# Altium integrated library Pedro_Integrated_Library.IntLib: 28 symbols
Pins are listed as number, name and electrical type; pins without a type are passive.

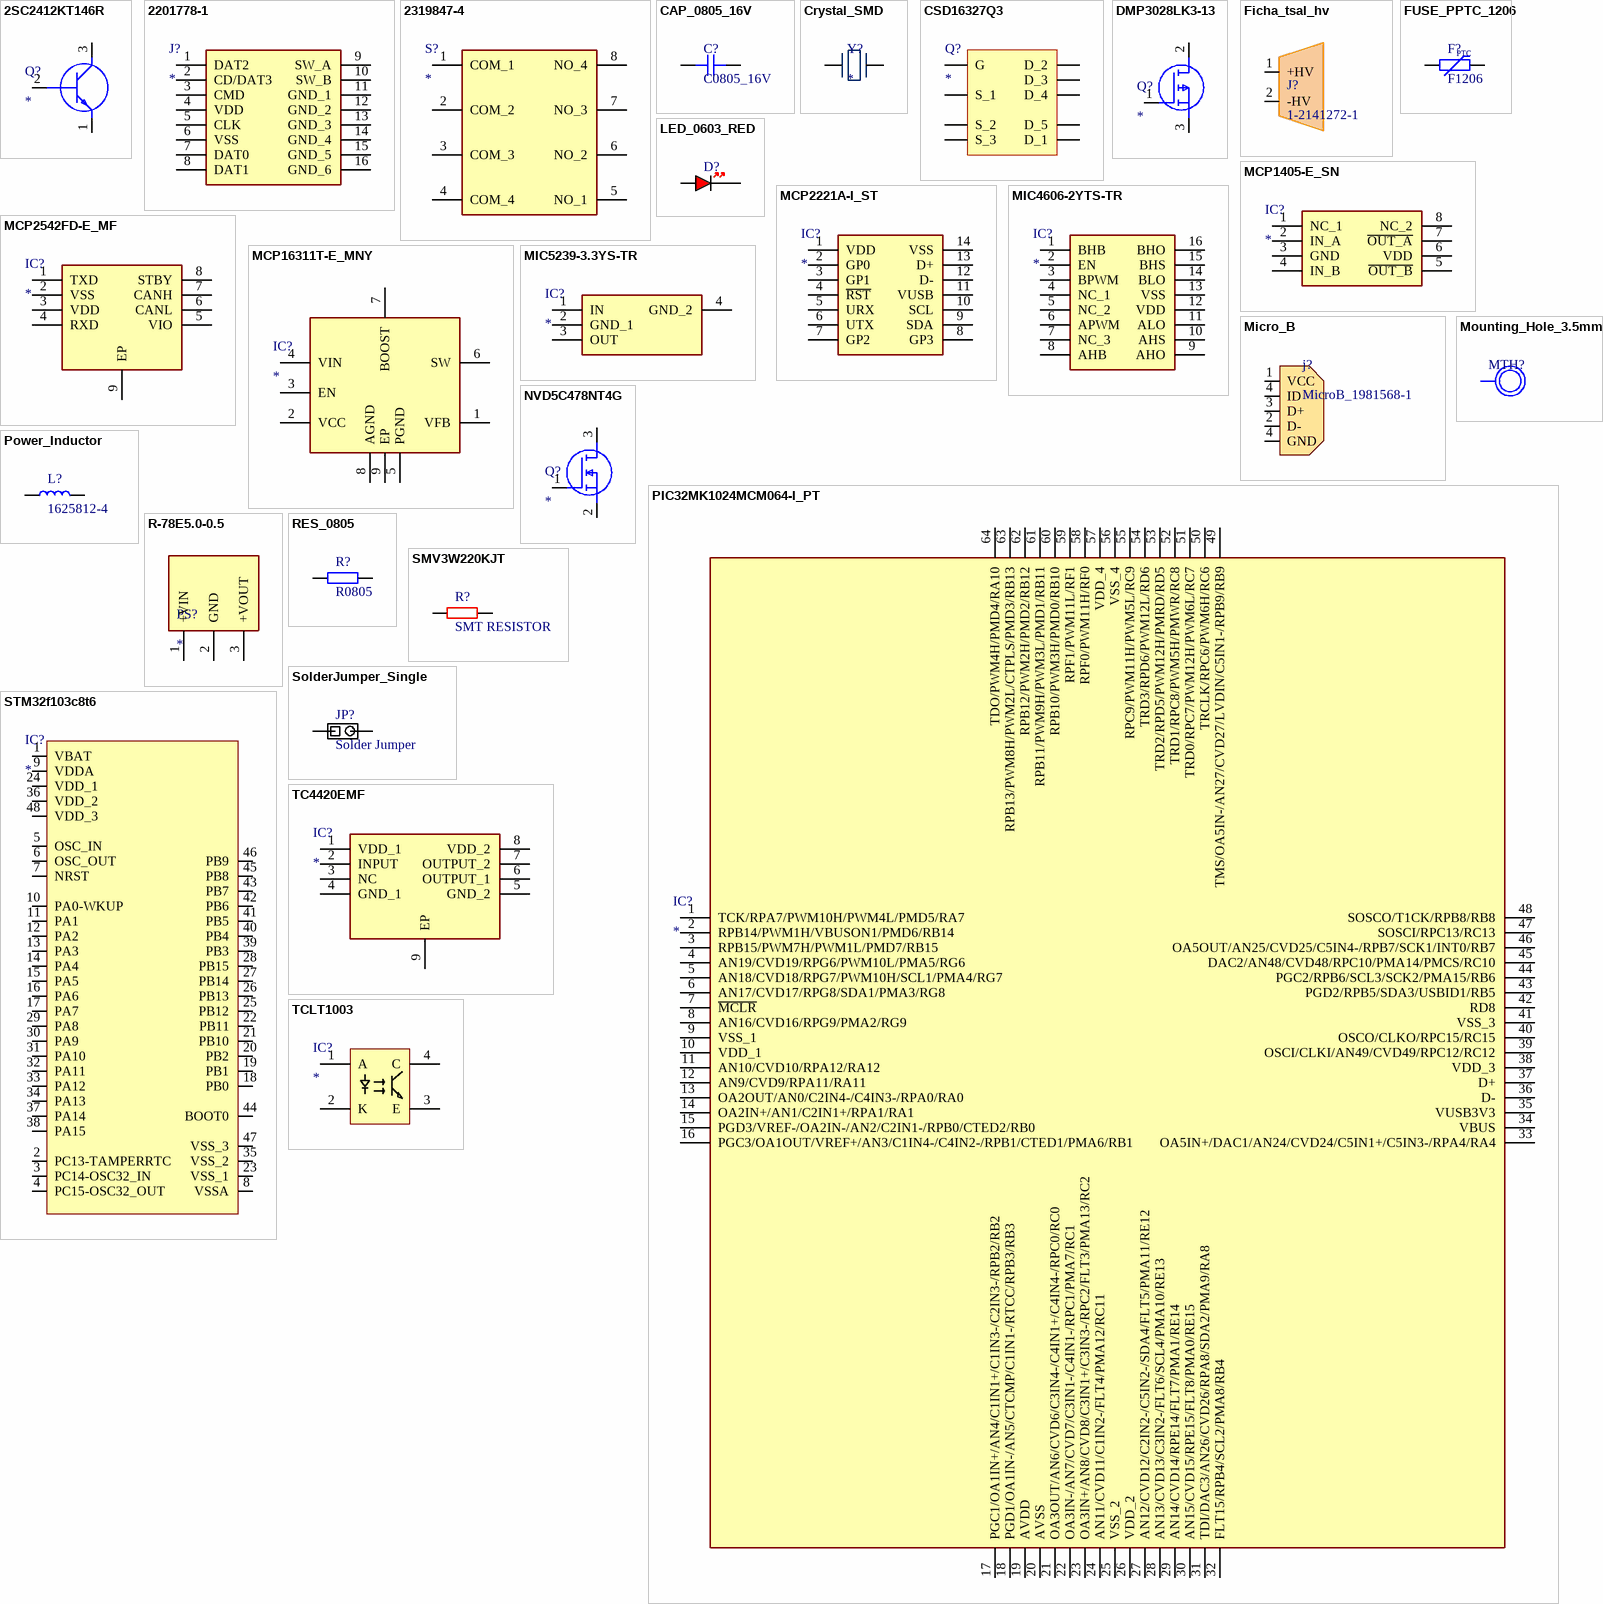
[diagram p0: symbols 2SC2412KT146R to TCLT1003]

## 2SC2412KT146R
designator Q?
Transistor BJT NPN; Manufacturer_Name: ROHM Semiconductor; Manufacturer_Part_Number: 2SC2412KT146R; Datasheet Link: https://componentsearchengine.com/Datasheets/2/2SC2412KT146R.pdf; Height: 1mm; Mouser Part Number: 755-2SC2412KT146R; Mouser Price/Stock: https://www.mouser.co.uk/ProductDetail/ROHM-Semiconductor/2SC2412KT146R?qs=4kLU8WoGk0tpvx7TJSz0kg%3D%3D
footprint 2SC3906KT146ERS
pins: 1 E, 2 B, 3 C

## 2201778-1
designator J?
Connector; Manufacturer_Name: TE Connectivity; Manufacturer_Part_Number: 2201778-1; Datasheet Link: https://www.te.com/commerce/DocumentDelivery/DDEController?Action=showdoc&DocId=Customer+Drawing%7F2201778%7FB%7Fpdf%7FJapanese%7FJPN_CD_2201778_B.pdf%7F2201778-1; Height: 1.95mm; Mouser Part Number: 571-2201778-1; Mouser Price/Stock: https://www.mouser.co.uk/ProductDetail/TE-Connectivity/2201778-1?qs=%2F6W%2F9%2FHWvcBMWWw9w8oBng%3D%3D; Arrow Part Number: 2201778-1; Arrow Price/Stock: https://www.arrow.com/en/products/2201778-1/te-connectivity?region=nac
footprint 22017781
pins: 1 DAT2, 2 CD/DAT3, 3 CMD, 4 VDD, 5 CLK, 6 VSS, 7 DAT0, 8 DAT1, 9 SW_A, 10 SW_B, 11 GND_1, 12 GND_2, 13 GND_3, 14 GND_4, 15 GND_5, 16 GND_6

## 2319847-4
designator S?
Switch; Manufacturer_Name: TE Connectivity; Manufacturer_Part_Number: 2319847-4; Datasheet Link: https://www.te.com/commerce/DocumentDelivery/DDEController?Action=srchrtrv&DocNm=2319847&DocType=Customer+Drawing&DocLang=English&PartCntxt=2-2319847-4&DocFormat=pdf; Height: 3.7mm
footprint 23198474
pins: 1 COM_1, 2 COM_2, 3 COM_3, 4 COM_4, 5 NO_1, 6 NO_2, 7 NO_3, 8 NO_4

## CAP_0805_16V
designator C?, comment C0805_16V
Capacitor SMD 0805 16V
footprint CAP_0805
pins: 1, 2

## Crystal_SMD
designator Y?
footprint ABM38000MHZC4T
pins: 1, 2

## CSD16327Q3
designator Q?
MOSFET (N-Channel); Manufacturer_Name: Texas Instruments; Manufacturer_Part_Number: CSD16327Q3; Datasheet Link: https://www.ti.com/lit/ds/symlink/csd16327q3.pdf?HQS=dis-mous-null-mousermode-dsf-pf-null-wwe&ts=1620965148072&ref_url=https%253A%252F%252Fwww.mouser.com%252F; Height: 1.1mm; Mouser Part Number: 595-CSD16327Q3; Mouser Price/Stock: https://www.mouser.co.uk/ProductDetail/Texas-Instruments/CSD16327Q3?qs=3jfYfyvUSwCG33cNK3hedw%3D%3D; Arrow Part Number: CSD16327Q3; Arrow Price/Stock: https://www.arrow.com/en/products/csd16327q3/texas-instruments?region=nac
footprint CSD16327Q3
pins: 1 S_1, 2 S_2, 3 S_3, 4 G, 5 D_1 (power), 6 D_2 (power), 7 D_3 (power), 8 D_4 (power), 9 D_5 (power)

## DMP3028LK3-13
designator Q?
MOSFET (P-Channel); Manufacturer_Name: Diodes Inc.; Manufacturer_Part_Number: DMP3028LK3-13; Datasheet Link: https://componentsearchengine.com/Datasheets/1/DMP3028LK3-13.pdf; Height: 2.39mm; Mouser Part Number: 621-DMP3028LK3-13; Mouser Price/Stock: https://www.mouser.co.uk/ProductDetail/Diodes-Incorporated/DMP3028LK3-13?qs=OVC8WVYZliSFpRP3sPErZQ%3D%3D; Arrow Part Number: DMP3028LK3-13; Arrow Price/Stock: https://www.arrow.com/en/products/dmp3028lk3-13/diodes-incorporated
footprint DMP3028LK313
pins: 1 G, 2 D, 3 S

## Ficha_tsal_hv
designator J?, comment 1-2141272-1
TE 1-2141272-1
footprint Ficha_tsal_hv
pins: 1 +HV, 2 -HV

## FUSE_PPTC_1206
designator F?, comment F1206
Fuse PPTC SMD 1206; Manufacturer: *; Manufacturer Part Number: *
footprint FUSE_1206
pins: 1, 2
text: PTC

## LED_0603_RED
designator D?, comment RED  (value not drawn)
LED 0603 RED SMD
footprint LED_0603_RED
pins: A, K

## MCP1405-E_SN
designator IC?
Integrated Circuit; Manufacturer_Name: Microchip; Manufacturer_Part_Number: MCP1405-E/SN; Datasheet Link: https://datasheet.datasheetarchive.com/originals/distributors/SFDatasheet-4/sf-00090019.pdf; Height: 1.75mm; Mouser Part Number: 579-MCP1405-E/SN; Mouser Price/Stock: https://www.mouser.co.uk/ProductDetail/Microchip-Technology/MCP1405-E-SN?qs=usxtMOJb1Rz6iJkGGONxgg%3D%3D; Arrow Part Number: MCP1405-E/SN; Arrow Price/Stock: https://www.arrow.com/en/products/mcp1405-esn/microchip-technology
footprint SOIC127P600X175-8N
pins: 1 NC_1, 2 IN_A, 3 GND, 4 IN_B, 5 ~{OUT_B}, 6 VDD, 7 ~{OUT_A}, 8 NC_2

## MCP2221A-I_ST
designator IC?
Integrated Circuit; Manufacturer_Name: Microchip; Manufacturer_Part_Number: MCP2221A-I/ST; Datasheet Link: http://ww1.microchip.com/downloads/en/devicedoc/20005565b.pdf; Height: 1.2mm; Mouser Part Number: 579-MCP2221A-I/ST; Mouser Price/Stock: https://www.mouser.co.uk/ProductDetail/Microchip-Technology-Atmel/MCP2221A-I-ST?qs=ZEMkBHnybREMkqMgzOrcGQ%3D%3D; Arrow Part Number: MCP2221A-I/ST; Arrow Price/Stock: https://www.arrow.com/en/products/mcp2221a-ist/microchip-technology?region=nac
footprint SOP65P640X120-14N
pins: 1 VDD, 2 GP0, 3 GP1, 4 ~{RST}, 5 URX, 6 UTX, 7 GP2, 8 GP3, 9 SDA, 10 SCL, 11 VUSB, 12 D-, 13 D+, 14 VSS

## MCP2542FD-E_MF
designator IC?
Integrated Circuit; Manufacturer_Name: Microchip; Manufacturer_Part_Number: MCP2542FD-E/MF; Datasheet Link: http://ww1.microchip.com/downloads/en/devicedoc/20005514a.pdf; Height: 1mm; Mouser Part Number: 579-MCP2542FD-E/MF; Mouser Price/Stock: https://www.mouser.co.uk/ProductDetail/Microchip-Technology-Atmel/MCP2542FD-E-MF?qs=l7cgNqFNU1jog4BwTzULBw%3D%3D; Arrow Part Number: MCP2542FD-E/MF; Arrow Price/Stock: https://www.arrow.com/en/products/mcp2542fd-emf/microchip-technology?region=nac
footprint SON65P300X300X100-9N-D
pins: 1 TXD, 2 VSS, 3 VDD, 4 RXD, 5 VIO, 6 CANL, 7 CANH, 8 STBY, 9 EP

## MCP16311T-E_MNY
designator IC?
Integrated Circuit; Manufacturer_Name: Microchip; Manufacturer_Part_Number: MCP16311T-E/MNY; Datasheet Link: https://datasheet.datasheetarchive.com/originals/distributors/Datasheets-DGA22/1282819.pdf; Height: 0.8mm; Mouser Part Number: 579-MCP16311T-E/MNY; Mouser Price/Stock: https://www.mouser.co.uk/ProductDetail/Microchip-Technology/MCP16311T-E-MNY?qs=6qKXPk0vzx1V1ZrUQA0ENw%3D%3D; Arrow Part Number: MCP16311T-E/MNY; Arrow Price/Stock: https://www.arrow.com/en/products/mcp16311t-emny/microchip-technology?region=nac
footprint SON50P300X200X80-9N-D
pins: 1 VFB, 2 VCC, 3 EN, 4 VIN, 5 PGND, 6 SW, 7 BOOST, 8 AGND, 9 EP

## MIC4606-2YTS-TR
designator IC?
Integrated Circuit; Manufacturer_Name: Microchip; Manufacturer_Part_Number: MIC4606-2YTS-TR; Datasheet Link: https://eu.mouser.com/datasheet/2/268/20005604B-1286645.pdf; Height: 1.2mm; Mouser Part Number: 579-MIC4606-2YTS-TR; Mouser Price/Stock: https://www.mouser.co.uk/ProductDetail/Microchip-Technology-Atmel/MIC4606-2YTS-TR?qs=fxR7EJxuiMGiGNq6G0IdXQ%3D%3D; Arrow Part Number: MIC4606-2YTS-TR; Arrow Price/Stock: https://www.arrow.com/en/products/mic4606-2yts-tr/microchip-technology?region=nac
footprint SOP65P640X120-16N
pins: 1 BHB, 2 EN, 3 BPWM, 4 NC_1, 5 NC_2, 6 APWM, 7 NC_3, 8 AHB, 9 AHO, 10 AHS, 11 ALO, 12 VDD, 13 VSS, 14 BLO, 15 BHS, 16 BHO

## MIC5239-3.3YS-TR
designator IC?
Integrated Circuit; Manufacturer_Name: Microchip; Manufacturer_Part_Number: MIC5239-3.3YS-TR; Datasheet Link: https://ww1.microchip.com/downloads/en/DeviceDoc/mic5239.pdf; Height: 1.8mm; Mouser Part Number: 998-MIC5239-3.3YSTR; Mouser Price/Stock: https://www.mouser.co.uk/ProductDetail/Microchip-Technology-Micrel/MIC5239-33YS-TR?qs=U6T8BxXiZAXN0UitWWB92A%3D%3D; Arrow Part Number: MIC5239-3.3YS-TR; Arrow Price/Stock: https://www.arrow.com/en/products/mic5239-3.3ys-tr/microchip-technology?region=nac
footprint SOT230P700X180-4N
pins: 1 IN, 2 GND_1, 3 OUT, 4 GND_2

## Micro_B
designator j?, comment MicroB_1981568-1
footprint 1981568-1
pins: 1 VCC (power), 2 D- (io), 3 D+ (io), 4 GND (power), 4 ID

## Mounting_Hole_3.5mm
designator MTH?  (value not drawn)
footprint Mounting_Hole_3.5mm
pins: 1

## NVD5C478NT4G
designator Q?
MOSFET (N-Channel); Manufacturer_Name: onsemi; Manufacturer_Part_Number: NVD5C478NT4G; Datasheet Link: http://www.onsemi.com/pub/Collateral/NVD5C478N-D.PDF; Mouser Part Number: 863-NVD5C478NT4G; Mouser Price/Stock: https://www.mouser.co.uk/ProductDetail/ON-Semiconductor/NVD5C478NT4G/?qs=y6ZabgHbY%252Bxvq0EyOcHTlg%3D%3D; Arrow Part Number: NVD5C478NT4G; Arrow Price/Stock: https://www.arrow.com/en/products/nvd5c478nt4g/on-semiconductor?region=nac
footprint DPAK_(SINGLE-GAUGE)_TO-252(369C)_ISSUE_F
pins: 1 G, 2 S, 3 D

## PIC32MK1024MCM064-I_PT
designator IC?
Integrated Circuit; Manufacturer_Name: Microchip; Manufacturer_Part_Number: PIC32MK1024MCM064-I/PT; Datasheet Link: https://ww1.microchip.com/downloads/aemDocuments/documents/MCU32/ProductDocuments/DataSheets/PIC32MK-GPK-MCM-with-CAN-FD-Family-DataSheet-DS60001519E.pdf; Height: 1.2mm; Mouser Part Number: 579-2MK1024MCM064IPT; Mouser Price/Stock: https://www.mouser.co.uk/ProductDetail/Microchip-Technology/PIC32MK1024MCM064-I-PT?qs=W%2FMpXkg%252BdQ4dBI32NJdQMg%3D%3D; Arrow Part Number: PIC32MK1024MCM064-I/PT; Arrow Price/Stock: https://www.arrow.com/en/products/pic32mk1024mcm064-ipt/microchip-technology?region=nac
footprint QFP50P1200X1200X120-64N
pins: 1 TCK/RPA7/PWM10H/PWM4L/PMD5/RA7, 2 RPB14/PWM1H/VBUSON1/PMD6/RB14, 3 RPB15/PWM7H/PWM1L/PMD7/RB15, 4 AN19/CVD19/RPG6/PWM10L/PMA5/RG6, 5 AN18/CVD18/RPG7/PWM10H/SCL1/PMA4/RG7, 6 AN17/CVD17/RPG8/SDA1/PMA3/RG8, 7 ~{MCLR}, 8 AN16/CVD16/RPG9/PMA2/RG9, 9 VSS_1, 10 VDD_1, 11 AN10/CVD10/RPA12/RA12, 12 AN9/CVD9/RPA11/RA11, 13 OA2OUT/AN0/C2IN4-/C4IN3-/RPA0/RA0, 14 OA2IN+/AN1/C2IN1+/RPA1/RA1, 15 PGD3/VREF-/OA2IN-/AN2/C2IN1-/RPB0/CTED2/RB0, 16 PGC3/OA1OUT/VREF+/AN3/C1IN4-/C4IN2-/RPB1/CTED1/PMA6/RB1, 17 PGC1/OA1IN+/AN4/C1IN1+/C1IN3-/C2IN3-/RPB2/RB2, 18 PGD1/OA1IN-/AN5/CTCMP/C1IN1-/RTCC/RPB3/RB3, 19 AVDD, 20 AVSS, 21 OA3OUT/AN6/CVD6/C3IN4-/C4IN1+/C4IN4-/RPC0/RC0, 22 OA3IN-/AN7/CVD7/C3IN1-/C4IN1-/RPC1/PMA7/RC1, 23 OA3IN+/AN8/CVD8/C3IN1+/C3IN3-/RPC2/FLT3/PMA13/RC2, 24 AN11/CVD11/C1IN2-/FLT4/PMA12/RC11, 25 VSS_2, 26 VDD_2, 27 AN12/CVD12/C2IN2-/C5IN2-/SDA4/FLT5/PMA11/RE12, 28 AN13/CVD13/C3IN2-/FLT6/SCL4/PMA10/RE13, 29 AN14/CVD14/RPE14/FLT7/PMA1/RE14, 30 AN15/CVD15/RPE15/FLT8/PMA0/RE15, 31 TDI/DAC3/AN26/CVD26/RPA8/SDA2/PMA9/RA8, 32 FLT15/RPB4/SCL2/PMA8/RB4, 33 OA5IN+/DAC1/AN24/CVD24/C5IN1+/C5IN3-/RPA4/RA4, 34 VBUS, 35 VUSB3V3, 36 D-, 37 D+, 38 VDD_3, 39 OSCI/CLKI/AN49/CVD49/RPC12/RC12, 40 OSCO/CLKO/RPC15/RC15, 41 VSS_3, 42 RD8, 43 PGD2/RPB5/SDA3/USBID1/RB5, 44 PGC2/RPB6/SCL3/SCK2/PMA15/RB6, 45 DAC2/AN48/CVD48/RPC10/PMA14/PMCS/RC10, 46 OA5OUT/AN25/CVD25/C5IN4-/RPB7/SCK1/INT0/RB7, 47 SOSCI/RPC13/RC13, 48 SOSCO/T1CK/RPB8/RB8, 49 TMS/OA5IN-/AN27/CVD27/LVDIN/C5IN1-/RPB9/RB9, 50 TRCLK/RPC6/PWM6H/RC6, 51 TRD0/RPC7/PWM12H/PWM6L/RC7, 52 TRD1/RPC8/PWM5H/PMWR/RC8, 53 TRD2/RPD5/PWM12H/PMRD/RD5, 54 TRD3/RPD6/PWM12L/RD6, 55 RPC9/PWM11H/PWM5L/RC9, 56 VSS_4, 57 VDD_4, 58 RPF0/PWM11H/RF0, 59 RPF1/PWM11L/RF1, 60 RPB10/PWM3H/PMD0/RB10, 61 RPB11/PWM9H/PWM3L/PMD1/RB11, 62 RPB12/PWM2H/PMD2/RB12, 63 RPB13/PWM8H/PWM2L/CTPLS/PMD3/RB13, 64 TDO/PWM4H/PMD4/RA10

## Power_Inductor
designator L?, comment 1625812-4
TE 1625812-4
footprint Power_Inductor
pins: 1, 2

## R-78E5.0-0.5
designator PS?
Power Supply; Manufacturer_Name: RECOM Power; Manufacturer_Part_Number: R-78E5.0-0.5; Datasheet Link: https://datasheet.datasheetarchive.com/originals/distributors/Datasheets_SAMA/1560217c2d38d5ce10907af13420fc49.pdf; Height: 10.9mm; Mouser Part Number: 919-R-78E5.0-0.5; Mouser Price/Stock: https://www.mouser.co.uk/ProductDetail/RECOM-Power/R-78E5.0-0.5?qs=JeAkOuORR2UvBuiB2kZVZQ%3D%3D; Arrow Part Number: R-78E5.0-0.5; Arrow Price/Stock: https://www.arrow.com/en/products/r-78e5.0-0.5/recom-power?region=europe
footprint R78E5005
pins: 1 +VIN, 2 GND, 3 +VOUT

## RES_0805
designator R?, comment R0805
Resistor SMD 0805
footprint RES_0805
pins: 1, 2

## SMV3W220KJT
designator R?, comment SMT RESISTOR
footprint SMV3W220KJT
pins: 1, 2

## SolderJumper_Single
designator JP?, comment Solder Jumper
Solder Jumper Single 0.5mm Pitch
footprint SolderJumper_Single
pins: 1, 2

## STM32f103c8t6
designator IC?
footprint QFP50P900X900X160-48N
pins: 1 VBAT (power), 2 PC13-TAMPERRTC, 3 PC14-OSC32_IN, 4 PC15-OSC32_OUT, 5 OSC_IN, 6 OSC_OUT, 7 NRST, 8 VSSA (power), 9 VDDA (power), 10 PA0-WKUP (io), 11 PA1 (io), 12 PA2 (io), 13 PA3 (io), 14 PA4 (io), 15 PA5 (io), 16 PA6 (io), 17 PA7 (io), 18 PB0 (io), 19 PB1 (io), 20 PB2 (io), 21 PB10 (io), 22 PB11 (io), 23 VSS_1 (power), 24 VDD_1 (power), 25 PB12 (io), 26 PB13 (io), 27 PB14 (io), 28 PB15 (io), 29 PA8 (io), 30 PA9 (io), 31 PA10 (io), 32 PA11 (io), 33 PA12 (io), 34 PA13 (io), 35 VSS_2 (power), 36 VDD_2 (power), 37 PA14 (io), 38 PA15 (io), 39 PB3 (io), 40 PB4 (io), 41 PB5 (io), 42 PB6 (io), 43 PB7 (io), 44 BOOT0, 45 PB8 (io), 46 PB9 (io), 47 VSS_3 (power), 48 VDD_3 (power)

## TC4420EMF
designator IC?
Integrated Circuit; Manufacturer_Name: Microchip; Manufacturer_Part_Number: TC4420EMF; Datasheet Link: https://www.arrow.com/en/products/tc4420emf/microchip-technology?region=nac; Height: 0.95mm; Mouser Part Number: 579-TC4420EMF; Mouser Price/Stock: https://www.mouser.co.uk/ProductDetail/Microchip-Technology/TC4420EMF?qs=wPbeaPfwU98xE18J%252BR7%2F5A%3D%3D; Arrow Part Number: TC4420EMF; Arrow Price/Stock: https://www.arrow.com/en/products/tc4420emf/microchip-technology?region=nac
footprint SON127P500X600X95-9N
pins: 1 VDD_1, 2 INPUT, 3 NC, 4 GND_1, 5 GND_2, 6 OUTPUT_1, 7 OUTPUT_2, 8 VDD_2, 9 EP

## TCLT1003
designator IC?
Integrated Circuit; Manufacturer_Name: Vishay; Manufacturer_Part_Number: TCLT1003; Datasheet Link: http://www.vishay.com/docs/83515/tclt1000.pdf; Height: 2.3mm; Mouser Part Number: 782-TCLT1003; Mouser Price/Stock: https://www.mouser.co.uk/ProductDetail/Vishay-Semiconductors/TCLT1003?qs=6T8DmbO4ukdpx1NL%252BFEFkQ%3D%3D; Arrow Part Number: TCLT1003; Arrow Price/Stock: https://www.arrow.com/en/products/tclt1003/vishay?region=nac
footprint SOP254P1015X230-4N
pins: 1 A, 2 K, 3 E, 4 C